# EAGLE library part STM32L452CEU3 (library U-ST-STML453CEU3-uC)
Low power micro controller STM32L452CEU3 32 bit memory 512kB Flash 80MHz Datasheet <https://www.st.com/content/ccc/resource/technical/document/datasheet/group3/fc/c2/8d/b7/99/d8/42/9e/DM00340549/files/DM00340549.pdf/jcr:content/translations/en.DM00340549.pdf>
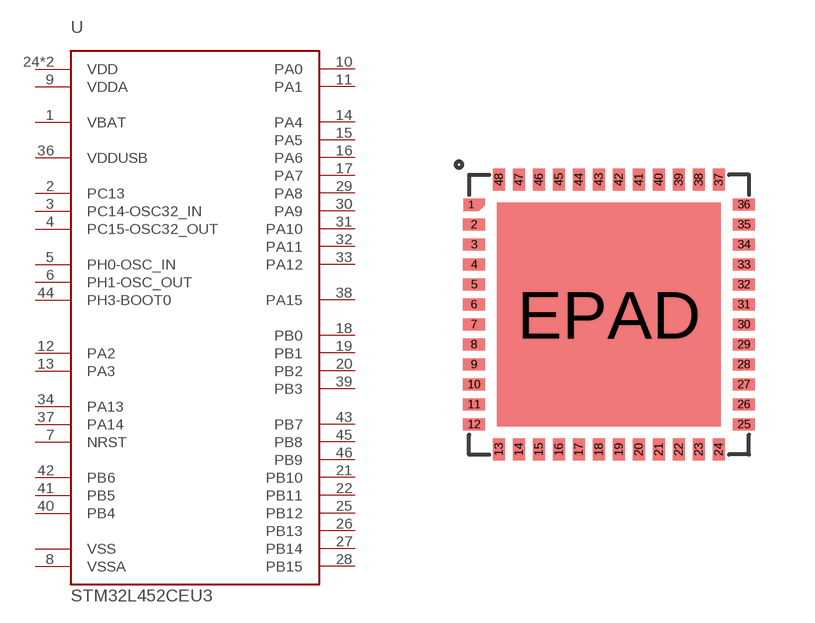
[diagram p0: symbol with the pads of QFPN-48; footprint QFPN-48]

Designator prefix -

## STM32L452CEU3 (DISCRIPTION: 32 bit Microcontroller; DIST: Digi-Key; DIST_PN: 497-18598-ND; GENERIC: N; MFG: STMicroelectronics; MFG_PN: STM32L452CEU3; P-NP: P)  [QFPN-48]
1  VBAT
2  PC13
3  PC14-OSC32_IN
4  PC15-OSC32_OUT
5  PH0-OSC_IN
6  PH1-OSC_OUT
7  NRST
8  VSSA
9  VDDA
10  PA0
11  PA1
12  PA2
13  PA3
14  PA4
15  PA5
16  PA6
17  PA7
18  PB0
19  PB1
20  PB2
21  PB10
22  PB11
23  VSS
24  VDD
25  PB12
26  PB13
27  PB14
28  PB15
29  PA8
30  PA9
31  PA10
32  PA11
33  PA12
34  PA13
35  VSS
36  VDDUSB
37  PA14
38  PA15
39  PB3
40  PB4
41  PB5
42  PB6
43  PB7
44  PH3-BOOT0
45  PB8
46  PB9
47  VSS
48  VDD
EPAD  VSS

## Footprint QFPN-48 (pad centres in mm)
smd 0.38 x 0.28: 1 -3.45,2.75
smd 0.55 x 0.3: 2 -3.375,2.25; 3 -3.375,1.75; 4 -3.375,1.25; 5 -3.375,0.75; 6 -3.375,0.25; 7 -3.375,-0.25; 8 -3.375,-0.75; 9 -3.375,-1.25; 10 -3.375,-1.75; 11 -3.375,-2.25; 12 -3.375,-2.75; 25 3.375,-2.75; 26 3.375,-2.25; 27 3.375,-1.75; 28 3.375,-1.25; 29 3.375,-0.75; 30 3.375,-0.25; 31 3.375,0.25; 32 3.375,0.75; 33 3.375,1.25; 34 3.375,1.75; 35 3.375,2.25; 36 3.375,2.75
smd 0.3 x 0.55: 13 -2.75,-3.375; 14 -2.25,-3.375; 15 -1.75,-3.375; 16 -1.25,-3.375; 17 -0.75,-3.375; 18 -0.25,-3.375; 19 0.25,-3.375; 20 0.75,-3.375; 21 1.25,-3.375; 22 1.75,-3.375; 23 2.25,-3.375; 24 2.75,-3.375; 37 2.75,3.375; 38 2.25,3.375; 39 1.75,3.375; 40 1.25,3.375; 41 0.75,3.375; 42 0.25,3.375; 43 -0.25,3.375; 44 -0.75,3.375; 45 -1.25,3.375; 46 -1.75,3.375; 47 -2.25,3.375; 48 -2.75,3.375
smd 5.6 x 5.6: EPAD 0,0